# Altium schematic symbol library Amplifier_Difference.SchLib: 22 symbols
Pins are listed as number, name and electrical type; pins without a type are passive.

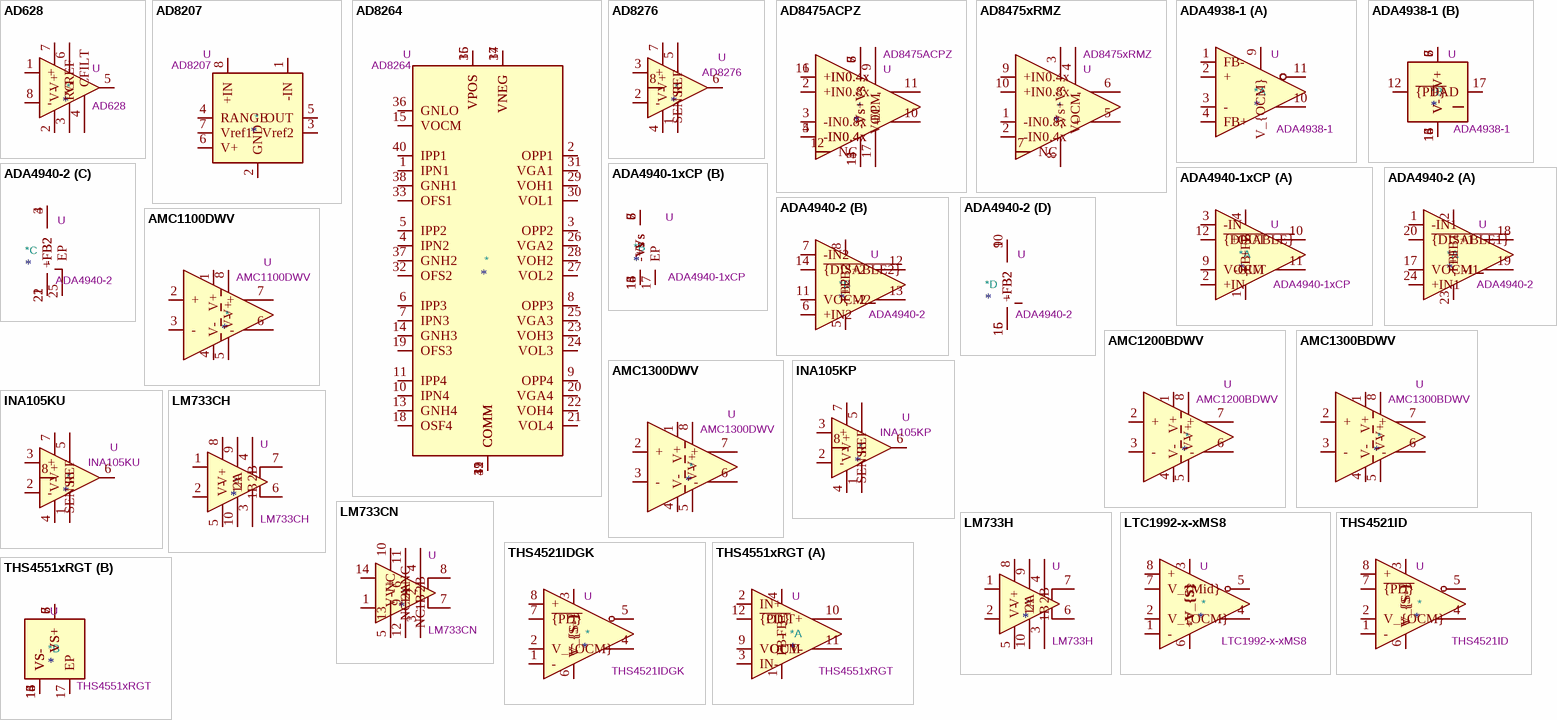
[diagram p0: symbols AD628 to THS4551xRGT]

## AD628
designator *  value AD628  Reference: U
High Common-Mode Voltage, Programmable Gain Difference Amplifier, ±120V, Gain = 0.1 to 100, SOIC-8/MSOP-8; ki_fp_filters: SOIC*3.9x4.9mm*P1.27mm* MSOP*3x3mm*P0.65mm*; Datasheet: https://www.analog.com/media/en/technical-documentation/data-sheets/AD628.pdf; Description_: High Common-Mode Voltage, Programmable Gain Difference Amplifier, ±120V, Gain = 0.1 to 100, SOIC-8/MSOP-8; ki_keywords: difference amplifier
pins: 1 +, 2 V-, 3 VREF, 4 CFILT, 5, 6 RG, 7 V+, 8 -

## AD8207
designator *  value AD8207  Reference: U
65V (35V) Zero-Drift, High Voltage, Bidirectional, Difference Amplifier, 20V/V gain, bandwidth 150kHz, Vcc=5V (3.3V), SOIC-8; ki_keywords: highside HS current sense difference amplifier linear buffered; ki_fp_filters: SOIC*3.9x4.9mm*P1.27mm*; Footprint: Package_SO:SOIC-8_3.9x4.9mm_P1.27mm; Datasheet: https://www.analog.com/media/en/technical-documentation/data-sheets/AD8207.pdf; Description_: 65V (35V) Zero-Drift, High Voltage, Bidirectional, Difference Amplifier, 20V/V gain, bandwidth 150kHz, Vcc=5V (3.3V), SOIC-8
pins: 1 -IN, 2 GND, 3 Vref2, 4 RANGE, 5 OUT, 6 V+, 7 Vref1, 8 +IN

## AD8264
designator *  value AD8264  Reference: U
Quad, 235 MHz, 6-30 dB gain, ±2.5 V to ±5 V supply, DC-Coupled VGA and Differential Output Amplifier, QFN-40; ki_keywords: difference amplifier variable; ki_fp_filters: *QFN*6x6mm*P0.5mm*EP4.1x4.1mm*; Footprint: Package_DFN_QFN:HVQFN-40-1EP_6x6mm_P0.5mm_EP4.1x4.1mm; Datasheet: https://www.analog.com/media/en/technical-documentation/data-sheets/AD8264.pdf; Description_: Quad, 235 MHz, 6-30 dB gain, ±2.5 V to ±5 V supply, DC-Coupled VGA and Differential Output Amplifier, QFN-40
pins: 1 IPN1, 2 OPP1, 3 OPP2, 4 IPN2, 5 IPP2, 6 IPP3, 7 IPN3, 8 OPP3, 9 OPP4, 10 IPN4, 11 IPP4, 12 COMM, 13 GNH4, 14 GNH3, 15 VOCM, 16 VPOS, 17 VNEG, 18 OSF4, 19 OFS3, 20 VGA4, 21 VOL4, 22 VOH4, 23 VOH3, 24 VOL3, 25 VGA3, 26 VGA2, 27 VOL2, 28 VOH2, 29 VOH1, 30 VOL1, 31 VGA1, 32 OFS2, 33 OFS1, 34 VNEG, 35 VPOS, 36 GNLO, 37 GNH2, 38 GNH1, 39 COMM, 40 IPP1, 41 COMM

## AD8276
designator *  value AD8276  Reference: U
Low Power, Wide Supply Range, Low Cost Unity-Gain Difference Amplifier, SOIC-8/MSOP-8; ki_fp_filters: SOIC*3.9x4.9mm*P1.27mm* MSOP*3x3mm*P0.65mm*; Datasheet: https://www.analog.com/media/en/technical-documentation/data-sheets/AD8276_8277.pdf; Description_: Low Power, Wide Supply Range, Low Cost Unity-Gain Difference Amplifier, SOIC-8/MSOP-8; ki_keywords: difference amplifier
pins: 1 REF, 2 -, 3 +, 4 V-, 5 SENSE, 6, 7 V+, 8

## AD8475ACPZ
designator *  value AD8475ACPZ  Reference: U
Precision, Selectable Gain, Fully Differential Funnel Amplifier, LFCSP-16; ki_keywords: selectable gain ADC driver; ki_fp_filters: LFCSP*1EP*3x3mm*P0.5mm*; Footprint: Package_CSP:LFCSP-16-1EP_3x3mm_P0.5mm_EP1.6x1.6mm; Datasheet: https://www.analog.com/media/en/technical-documentation/data-sheets/AD8475.pdf; Description_: Precision, Selectable Gain, Fully Differential Funnel Amplifier, LFCSP-16
pins: 1 +IN0.4x, 2 +IN0.8x, 3 -IN0.8x, 4 -IN0.4x, 5 -IN0.4x, 6 +Vs, 7 +Vs, 8 +Vs, 9 VOCM, 10 +, 11 -, 12 NC, 13 -Vs, 14 -Vs, 15 -Vs, 16 +IN0.4x, 17 EP

## AD8475xRMZ
designator *  value AD8475xRMZ  Reference: U
Precision, Selectable Gain, Fully Differential Funnel Amplifier, MSOP-10; ki_keywords: selectable gain ADC driver; ki_fp_filters: MSOP*3x3mm*P0.5mm*; Footprint: Package_SO:MSOP-10_3x3mm_P0.5mm; Datasheet: https://www.analog.com/media/en/technical-documentation/data-sheets/AD8475.pdf; Description_: Precision, Selectable Gain, Fully Differential Funnel Amplifier, MSOP-10
pins: 1 -IN0.8x, 2 -IN0.4x, 3 +Vs, 4 VOCM, 5 +, 6 -, 7 NC, 8 -Vs, 9 +IN0.4x, 10 +IN0.8x

## ADA4938-1
designator *  value ADA4938-1  Reference: U
Ultralow distortion, high speed fully-differential amplifier, ADC Driver, 1GHz GBP, 3x3mm LFCSP-16; ki_keywords: Fully-Differential Amplifier ADC Driver; ki_fp_filters: LFCSP*EP?3x3mm?P0.5mm?EP1.3x1.3mm*; Footprint: Package_CSP:LFCSP-16-1EP_3x3mm_P0.5mm_EP1.3x1.3mm_ThermalVias; Datasheet: https://www.analog.com/media/en/technical-documentation/data-sheets/ADA4938-1_4938-2.pdf; Description_: Ultralow distortion, high speed fully-differential amplifier, ADC Driver, 1GHz GBP, 3x3mm LFCSP-16
part A pins: 1 FB-, 2 +, 3 -, 4 FB+, 9 V_{OCM}, 10, 11
part B pins: 5 V+, 6 V+, 7 V+, 8 V+, 12 ~{{PD}}, 13 V-, 14 V-, 15 V-, 16 V-, 17 PAD

## ADA4940-1xCP
designator *  value ADA4940-1xCP  Reference: U
Ultralow Power, Low Distortion, Fully Differential ADC Drivers, LFCSP-16; ki_keywords: differential amplifier; ki_fp_filters: LFCSP*1EP*3x3mm*P0.5mm*; Footprint: Package_CSP:LFCSP-16-1EP_3x3mm_P0.5mm_EP1.3x1.3mm_ThermalVias; Datasheet: https://www.analog.com/media/en/technical-documentation/data-sheets/ADA4940-1_4940-2.pdf; Description_: Ultralow Power, Low Distortion, Fully Differential ADC Drivers, LFCSP-16
part A pins: 1 -FB, 2 +IN, 3 -IN, 4 +FB, 9 VOCM, 10 +OUT, 11 -OUT, 12 ~{{DISABLE}}
part B pins: 5 +Vs, 6 +Vs, 7 +Vs, 8 +Vs, 13 -Vs, 14 -Vs, 15 -Vs, 16 -Vs, 17 EP

## ADA4940-2
designator *  value ADA4940-2  Reference: U
Ultralow Power, Low Distortion, Fully Differential ADC Drivers, Dual-Channel, LFCSP-24; ki_keywords: differential amplifier; ki_fp_filters: LFCSP*1EP*4x4mm*P0.5mm*; Footprint: Package_CSP:LFCSP-24-1EP_4x4mm_P0.5mm_EP2.5x2.5mm; Datasheet: https://www.analog.com/media/en/technical-documentation/data-sheets/ADA4940-1_4940-2.pdf; Description_: Ultralow Power, Low Distortion, Fully Differential ADC Drivers, Dual-Channel, LFCSP-24
part A pins: 1 -IN1, 2 +FB1, 17 VOCM1, 18 +1, 19 -1, 20 ~{{DISABLE1}}, 23 -FB1, 24 +IN1
part B pins: 5 -FB2, 6 +IN2, 7 -IN2, 8 +FB2, 11 VOCM2, 12 +2, 13 -2, 14 ~{{DISABLE2}}
part C pins: 3 +FB2, 4 +FB2, 21 -FB2, 22 -FB2, 25 EP
part D pins: 9 +FB2, 10 +FB2, 15 -FB2, 16 -FB2

## AMC1100DWV
designator *  value AMC1100DWV  Reference: U
Fully-differential isolated amplifier, fixed gain = 8, peak isolation voltage 4250V, transient immunity 2.5kV/us, UL1577/IEC60747-5-2 approved, SOIC-8; ki_keywords: isolated difference amplifier; ki_fp_filters: SOIC*7.5x5.85mm*P1.27mm*; Footprint: Package_SO:SOIC-8_7.5x5.85mm_P1.27mm; Datasheet: http://www.ti.com/lit/ds/symlink/amc1100.pdf; Description_: Fully-differential isolated amplifier, fixed gain = 8, peak isolation voltage 4250V, transient immunity 2.5kV/us, UL1577/IEC60747-5-2 approved, SOIC-8
pins: 1 V+, 2 +, 3 -, 4 V-, 5 V-, 6 -, 7 +, 8 V+

## AMC1200BDWV
designator *  value AMC1200BDWV  Reference: U
Fully-differential isolated amplifier, ±250-mV input, fixed gain = 8, peak isolation voltage 4250V, transient immunity 10kV/us, UL1577/VDE V 0884-10 approved, SOIC-8; ki_keywords: isolated difference amplifier; ki_fp_filters: SOIC*7.5x5.85mm*P1.27mm*; Footprint: Package_SO:SOIC-8_7.5x5.85mm_P1.27mm; Datasheet: http://www.ti.com/lit/ds/symlink/amc1200.pdf; Description_: Fully-differential isolated amplifier, ±250-mV input, fixed gain = 8, peak isolation voltage 4250V, transient immunity 10kV/us, UL1577/VDE V 0884-10 approved, SOIC-8
pins: 1 V+, 2 +, 3 -, 4 V-, 5 V-, 6 -, 7 +, 8 V+

## AMC1300BDWV
designator *  value AMC1300BDWV  Reference: U
Fully-differental precision isolated amplifier, ±250-mV Input, reinforced isloation, fixed Gain = 8.2, peak isolation voltage 7071V, transient immunity 100kV/us, UL1577/VDE V 0884-11 approved, SOIC-8; ki_keywords: isolated difference amplifier; ki_fp_filters: SOIC*7.5x5.85mm*P1.27mm*; Footprint: Package_SO:SOIC-8_7.5x5.85mm_P1.27mm; Datasheet: http://www.ti.com/lit/ds/symlink/amc1300.pdf; Description_: Fully-differental precision isolated amplifier, ±250-mV Input, reinforced isloation, fixed Gain = 8.2, peak isolation voltage 7071V, transient immunity 100kV/us, UL1577/VDE V 0884-11 approved, SOIC-8
pins: 1 V+, 2 +, 3 -, 4 V-, 5 V-, 6 -, 7 +, 8 V+

## AMC1300DWV
designator *  value AMC1300DWV  Reference: U
Fully-differental isolated amplifier, ±250-mV Input, reinforced isloation, fixed gain = 8.2, peak isolation voltage 7071V, transient immunity 15kV/us, UL1577/VDE V 0884-11 approved, SOIC-8; ki_keywords: isolated difference amplifier; ki_fp_filters: SOIC*7.5x5.85mm*P1.27mm*; Footprint: Package_SO:SOIC-8_7.5x5.85mm_P1.27mm; Datasheet: http://www.ti.com/lit/ds/symlink/amc1300.pdf; Description_: Fully-differental isolated amplifier, ±250-mV Input, reinforced isloation, fixed gain = 8.2, peak isolation voltage 7071V, transient immunity 15kV/us, UL1577/VDE V 0884-11 approved, SOIC-8
pins: 1 V+, 2 +, 3 -, 4 V-, 5 V-, 6 -, 7 +, 8 V+

## INA105KP
designator *  value INA105KP  Reference: U
Low Power, Wide Supply Range, Low Cost Unity-Gain Difference Amplifier, DIP-8; ki_fp_filters: DIP*W7.62mm*; Footprint: Package_DIP:DIP-8_W7.62mm; Datasheet: https://www.ti.com/lit/ds/symlink/ina105.pdf; Description_: Low Power, Wide Supply Range, Low Cost Unity-Gain Difference Amplifier, DIP-8; ki_keywords: difference amplifier
pins: 1 REF, 2 -, 3 +, 4 V-, 5 SENSE, 6, 7 V+, 8

## INA105KU
designator *  value INA105KU  Reference: U
Low Power, Wide Supply Range, Low Cost Unity-Gain Difference Amplifier, SOIC-8; ki_fp_filters: SOIC*3.9x4.9mm*P1.27mm*; Footprint: Package_SO:SOIC-8_3.9x4.9mm_P1.27mm; Datasheet: https://www.ti.com/lit/ds/symlink/ina105.pdf; Description_: Low Power, Wide Supply Range, Low Cost Unity-Gain Difference Amplifier, SOIC-8; ki_keywords: difference amplifier
pins: 1 REF, 2 -, 3 +, 4 V-, 5 SENSE, 6, 7 V+, 8

## LM733CH
designator *  value LM733CH  Reference: U
Single Differential Amplifier, TO-5-10; ki_keywords: single differential video opamp; ki_fp_filters: TO?5*; Footprint: Package_TO_SOT_THT:TO-5-10; Datasheet: http://www.soemtron.org/downloads/disposals/lm733cn.pdf; Description_: Single Differential Amplifier, TO-5-10
pins: 1, 2, 3 2B, 4 1B, 5 V-, 6, 7, 8 V+, 9 1A, 10 2A

## LM733CN
designator *  value LM733CN  Reference: U
Single Differential Amplifier, DIP-14; ki_keywords: single differential video opamp; ki_fp_filters: DIP*W7.62mm*; Footprint: Package_DIP:DIP-14_W7.62mm; Datasheet: http://www.soemtron.org/downloads/disposals/lm733cn.pdf; Description_: Single Differential Amplifier, DIP-14
pins: 1, 2 NC, 3 2B, 4 1B, 5 V-, 6 NC, 7, 8, 9 NC, 10 V+, 11 1A, 12 2A, 13 NC, 14

## LM733H
designator *  value LM733H  Reference: U
Single Differential Amplifier, TO-5-10; ki_keywords: single differential video opamp; ki_fp_filters: TO?5*; Footprint: Package_TO_SOT_THT:TO-5-10; Datasheet: http://www.soemtron.org/downloads/disposals/lm733cn.pdf; Description_: Single Differential Amplifier, TO-5-10
pins: 1, 2, 3 2B, 4 1B, 5 V-, 6, 7, 8 V+, 9 1A, 10 2A

## LTC1992-x-xMS8
designator *  value LTC1992-x-xMS8  Reference: U
Low-Noise Precision Fully Differential Amplifier, fixed or variable gain, MSOP-8; ki_fp_filters: MSOP*3x3mm*P0.65mm*; Footprint: Package_SO:MSOP-8_3x3mm_P0.65mm; Datasheet: https://www.analog.com/media/en/technical-documentation/data-sheets/1992fb.pdf; Description_: Low-Noise Precision Fully Differential Amplifier, fixed or variable gain, MSOP-8; ki_keywords: fully differential amplifier
pins: 1 -, 2 V_{OCM}, 3 +V_{S}, 4, 5, 6 -V_{S}, 7 V_{Mid}, 8 +

## THS4521ID
designator *  value THS4521ID  Reference: U
Very Low Power, Negative Rail Input, Rail to Rail Output, Fully Differential Amplifier, SOIC-8; ki_fp_filters: SOIC*3.9x4.9mm*P1.27mm*; Footprint: Package_SO:SOIC-8_3.9x4.9mm_P1.27mm; Datasheet: https://www.ti.com/lit/ds/symlink/ths4521.pdf; Description_: Very Low Power, Negative Rail Input, Rail to Rail Output, Fully Differential Amplifier, SOIC-8; ki_keywords: differential amplifier
pins: 1 -, 2 V_{OCM}, 3 V_{S+}, 4, 5, 6 V_{S-}, 7 ~{{PD}}, 8 +

## THS4521IDGK
designator *  value THS4521IDGK  Reference: U
Very Low Power, Negative Rail Input, Rail to Rail Output, Fully Differential Amplifier, VSSOP-8; ki_fp_filters: VSSOP*3x3mm*P0.65mm*; Footprint: Package_SO:VSSOP-8_3x3mm_P0.65mm; Datasheet: https://www.ti.com/lit/ds/symlink/ths4521.pdf; Description_: Very Low Power, Negative Rail Input, Rail to Rail Output, Fully Differential Amplifier, VSSOP-8; ki_keywords: differential amplifier
pins: 1 -, 2 V_{OCM}, 3 V_{S+}, 4, 5, 6 V_{S-}, 7 ~{{PD}}, 8 +

## THS4551xRGT
designator *  value THS4551xRGT  Reference: U
Low-Noise Precision Fully Differential Amplifier, VQFN-16; ki_fp_filters: VQFN*1EP*3x3mm*P0.5mm*; Footprint: Package_DFN_QFN:VQFN-16-1EP_3x3mm_P0.5mm_EP1.68x1.68mm; Datasheet: https://www.ti.com/lit/ds/symlink/ths4551.pdf; Description_: Low-Noise Precision Fully Differential Amplifier, VQFN-16; ki_keywords: differential amplifier
part A pins: 1 FB-, 2 IN+, 3 IN-, 4 FB+, 9 VOCM, 10 OUT+, 11 OUT-, 12 ~{{PD}}
part B pins: 5 VS+, 6 VS+, 7 VS+, 8 VS+, 13 VS-, 14 VS-, 15 VS-, 16 VS-, 17 EP